# EAGLE library part CYBERDISPLAY-CONN (library cyberdriver)
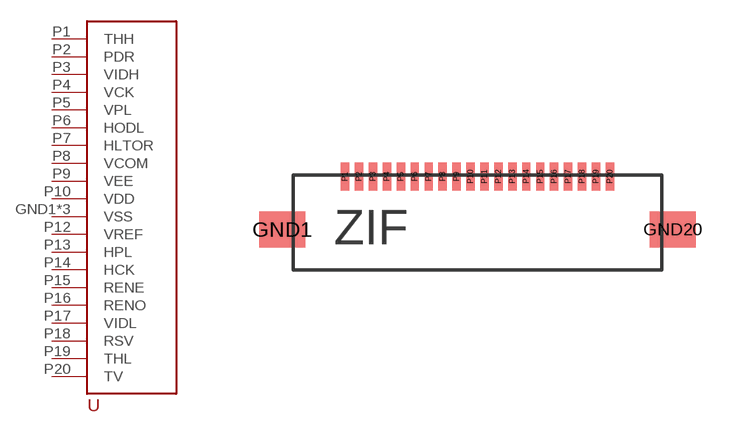
[diagram p0: symbol with the pads of MOLEX-54550-2071; footprint MOLEX-54550-2071]

Designator prefix -

## CYBERDISPLAY-CONN  [MOLEX-54550-2071]
GND1  VSS
GND20  VSS
P1  THH
P2  PDR
P3  VIDH
P4  VCK
P5  VPL
P6  HODL
P7  HLTOR
P8  VCOM
P9  VEE
P10  VDD
P11  VSS
P12  VREF
P13  HPL
P14  HCK
P15  RENE
P16  RENO
P17  VIDL
P18  RSV
P19  THL
P20  TV

## Footprint MOLEX-54550-2071 (pad centres in mm)
smd 1.65 x 1.3: GND1 -7,-0.95; GND20 7,-0.95
smd 0.3 x 1: P1 -4.75,0.95; P2 -4.25,0.95; P3 -3.75,0.95; P4 -3.25,0.95; P5 -2.75,0.95; P6 -2.25,0.95; P7 -1.75,0.95; P8 -1.25,0.95; P9 -0.75,0.95; P10 -0.25,0.95; P11 0.25,0.95; P12 0.75,0.95; P13 1.25,0.95; P14 1.75,0.95; P15 2.25,0.95; P16 2.75,0.95; P17 3.25,0.95; P18 3.75,0.95; P19 4.25,0.95; P20 4.75,0.95